# Altium footprint library Standoff.PcbLib: 1 footprints
Each footprint in its own frame and in the unit in brackets; x right, y up, seen from the top. Pads: shape width x height; smd on the part's side, far side on the other; paste and mask are expansions set on the pad; w line width, h text height; cw(c..) or ccw(c..) is an arc to the next point about the centre after c.
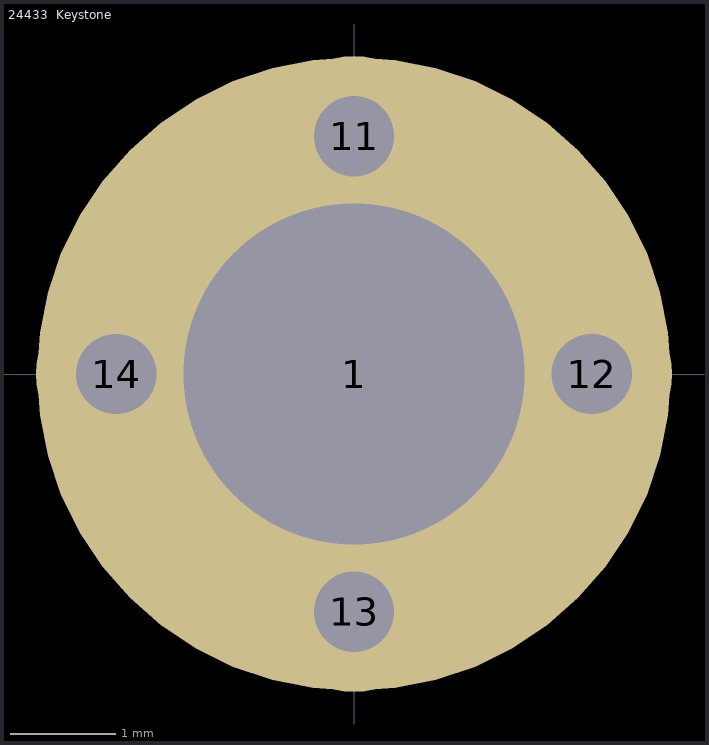
[diagram p0: the footprint, top view; thin cyan lines are the x and y axes]

## 24433  Keystone [mil]
pads (5):
  round 236.22 hole 126.97 unplated: 1(0,0)
  round 60 hole 30: 11(0,88.58) 12(88.58,0) 13(0,-88.58) 14(-88.58,0)
3D body: height -15.75, standoff -409.45, extent -98.43,-118.55 98.42,118.93